# Altium schematic symbol library 1150T LF XFMR.SchLib: 1 symbol
Pins are listed as number, name and electrical type; pins without a type are passive.

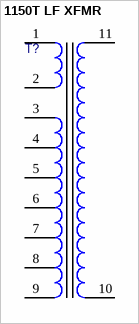
[diagram p0: symbol 1150T LF XFMR]

## 1150T LF XFMR
designator T?, comment 1150TLF XFMR  (value not drawn)
pins: 1 *, 2 *, 3 *, 4 *, 5 *, 6 *, 7 *, 8 *, 9 *, 10 *, 11